# Altium footprint library icaplamp_evo.PcbLib: 13 footprints
Each footprint in its own frame and in the unit in brackets; x right, y up, seen from the top. Pads: shape width x height; smd on the part's side, far side on the other; paste and mask are expansions set on the pad; w line width, h text height; cw(c..) or ccw(c..) is an arc to the next point about the centre after c.
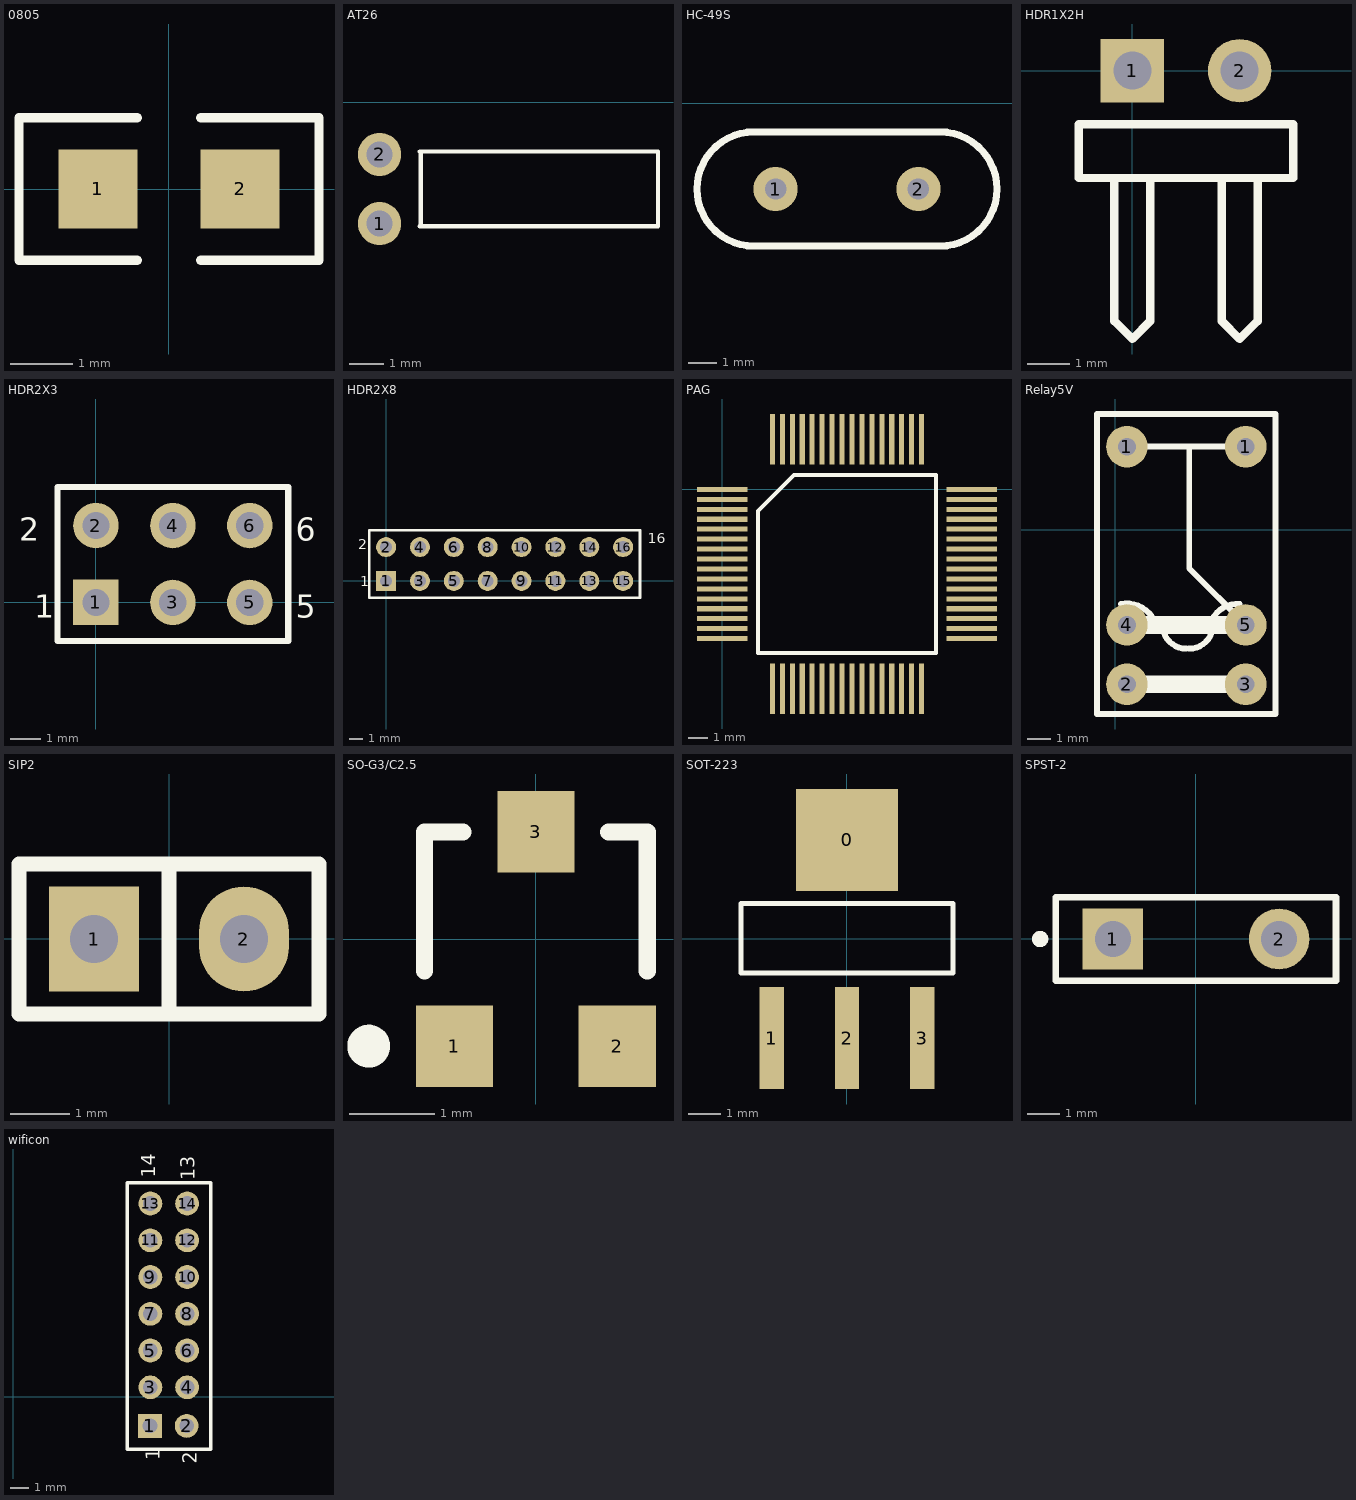
[diagram p0: the footprints below, top view; thin cyan lines are the x and y axes]

## 0805 [mil]
pads (2):
  rect 50x50 smd: 1(-45,0) 2(45,0)
Top Overlay:
  lines w6: -20,-45 -95,-45 -95,45 -20,45 ; 20,-45 95,-45 95,45 20,45

## AT26 [mil]
pads (2):
  round 50 hole 30: 1(60,-140.35) 2(60,-60.35)
Top Overlay:
  rectangle: 104.72,-143.61 110,-57
  lines w5: 106.49,-143.61 382.08,-143.61 382.08,-57 106.49,-57

## HC-49S [mil]
pads (2):
  round 62 hole 30: 1(160,-120) 2(360,-120)
Top Overlay:
  lines w10: 130,-200 cw(c130,-120) 130,-40 390,-40 cw(c390,-120) 390,-200 130,-200

## HDR1X2H [mm]
pads (2):
  rect 1.5x1.5 hole 0.9: 1(0,0)
  round 1.5 hole 0.9: 2(2.54,0)
Top Overlay:
  lines w0.2: -0.423,-2.54 -0.423,-5.927 0,-6.35 0.423,-5.927 0.423,-2.54 ; 2.117,-2.54 2.117,-5.927 2.54,-6.35 2.963,-5.927 2.963,-2.54 ; -1.27,-2.54 -1.27,-1.27 3.81,-1.27 3.81,-2.54 -1.27,-2.54

## HDR2X3 [mm]
pads (6):
  rect 1.5x1.5 hole 0.9: 1(0,0)
  round 1.5 hole 0.9: 2(0,2.54) 3(2.54,0) 4(2.54,2.54) 5(5.08,0) 6(5.08,2.54)
Top Overlay:
  lines w0.2: 1.482,-1.27 6.35,-1.27 ; 6.35,-1.27 -1.27,-1.27 -1.27,3.81 6.35,3.81 6.35,-1.27
  text "1" at -2.032,-0.508 h0.76
  text "2" at -2.54,2.032 h0.76
  text "5" at 6.604,-0.508 h0.76
  text "6" at 6.604,2.032 h0.76

## HDR2X8 [mm]
pads (16):
  rect 1.5x1.5 hole 0.9: 1(0,0)
  round 1.5 hole 0.9: 2(0,2.54) 3(2.54,0) 4(2.54,2.54) 5(5.08,0) 6(5.08,2.54) 7(7.62,0) 8(7.62,2.54) 9(10.16,0) 10(10.16,2.54) 11(12.7,0) 12(12.7,2.54) 13(15.24,0) 14(15.24,2.54) 15(17.78,0) 16(17.78,2.54)
Top Overlay:
  lines w0.2: -1.27,-1.27 19.05,-1.27 19.05,3.81 -1.27,3.81 -1.27,-1.27
  text "16" at 19.634,2.845 h0.76
  text "1" at -1.93,-0.381 h0.76
  text "2" at -2.108,2.362 h0.76

## PAG [mil]
pads (64):
  rect 100x10 smd: 1(0,0) 2(0,-19.68) 3(0,-39.37) 4(0,-59.05) 5(0,-78.74) 6(0,-98.42) 7(0,-118.11) 8(0,-137.79) 9(0,-157.48) 10(0,-177.16) 11(0,-196.85) 12(0,-216.53) 13(0,-236.22) 14(0,-255.91) 15(0,-275.59) 16(0,-295.27) 33(493.7,-295.27) 34(493.7,-275.59) 35(493.7,-255.91) 36(493.7,-236.22) 37(493.7,-216.53) 38(493.7,-196.85) 39(493.7,-177.16) 40(493.7,-157.48) 41(493.7,-137.79) 42(493.7,-118.11) 43(493.7,-98.42) 44(493.7,-78.74) 45(493.7,-59.05) 46(493.7,-39.37) 47(493.7,-19.68) 48(493.7,0)
  rect 10x100 smd: 17(99.21,-394.49) 18(118.9,-394.49) 19(138.58,-394.49) 20(158.27,-394.49) 21(177.95,-394.49) 22(197.64,-394.49) 23(217.32,-394.49) 24(237.01,-394.49) 25(256.69,-394.49) 26(276.38,-394.49) 27(296.06,-394.49) 28(315.75,-394.49) 29(335.43,-394.49) 30(355.12,-394.49) 31(374.8,-394.49) 32(394.49,-394.49) 49(394.49,99.21) 50(374.8,99.21) 51(355.12,99.21) 52(335.43,99.21) 53(315.75,99.21) 54(296.06,99.21) 55(276.38,99.21) 56(256.69,99.21) 57(237.01,99.21) 58(217.32,99.21) 59(197.64,99.21) 60(177.95,99.21) 61(158.27,99.21) 62(138.58,99.21) 63(118.9,99.21) 64(99.21,99.21)
Top Overlay:
  lines w7.87: 71.06,-323.43 422.64,-323.43 422.64,28.15 142.13,28.15 71.06,-42.91 71.06,-323.43

## Relay5V [mil]
pads (6):
  round 70 hole 30: 1(20,140) 1(220,140) 2(20,-260) 3(220,-260) 4(20,-160) 5(220,-160)
Top Layer:
  lines w10: -30,-310 265,-310
Top Overlay:
  lines w10: 10,-125 cw(c20,-175) 70,-165 ; 20,140 220,140 ; 80,-160 ccw(c120,-160) 120,-200 ; 125,-200 ccw(c125,-160) 165,-160 ; 125,140 125,-65 220,-160 ; 160,-165 cw(c205,-170) 210,-125 ; -30,-310 -30,195 270,195 270,-310 -30,-310
  lines w30: 20,-260 220,-260 ; 20,-160 220,-160

## SIP2 [mil]
pads (2):
  rect 60x70 hole 32: 1(-50,0)
  oval 60x70 hole 32: 2(50,0)
Top Overlay:
  lines w10: 0,-50 0,50 ; -100,-50 100,-50 100,50 -100,50 -100,-50

## SO-G3/C2.5 [mm]
pads (3):
  rect 0.9x0.95 smd: 1(-0.95,-1.25) 2(0.95,-1.25) 3(0,1.25)
Top Overlay:
  circle w0.25: c-1.95,-1.25 r0.125
  lines w0.2: -1.3,-0.375 -1.3,1.25 -0.85,1.25 ; 0.85,1.25 1.3,1.25 1.3,-0.375

## SOT-223 [mm]
pads (4):
  rect 3.1x3.1 smd: 0(0,3.01)
  rect 0.74x3.1 smd: 1(-2.29,-3.01) 2(0,-3.01) 3(2.29,-3.01)
Top Overlay:
  lines w0.152: -3.226,0.419 -3.226,-1.029 ; -0.406,1.079 3.226,1.079 3.226,-1.029 -0.203,-1.029 ; -0.025,-1.029 -3.226,-1.029 ; 0.102,1.079 -3.226,1.079 -3.226,0.165 ; -3.226,-1.029 -3.226,-1.029 ; -3.226,0.165 -3.226,0.165

## SPST-2 [mm]
pads (2):
  rect 1.85x1.85 hole 1.1: 1(-2.54,0)
  round 1.85 hole 1.1: 2(2.54,0)
Top Overlay:
  circle w0.25: c-4.761,-0.001 r0.125
  lines w0.2: -4.28,-1.27 -4.28,1.27 4.28,1.27 4.28,-1.27 -4.28,-1.27

## wificon [mm]
pads (14):
  rect 1.3x1.3 hole 0.8: 1(7.468,-1.6)
  round 1.3 hole 0.8: 2(9.474,-1.6) 3(7.493,0.508) 4(9.5,0.508) 5(7.493,2.515) 6(9.5,2.515) 7(7.493,4.521) 8(9.5,4.521) 9(7.493,6.528) 10(9.5,6.528) 11(7.493,8.534) 12(9.5,8.534) 13(7.493,10.541) 14(9.5,10.541)
Top Overlay:
  lines w0.2: 6.223,-2.87 6.223,11.684 10.795,11.684 10.795,-2.87 6.223,-2.87
  text "2" at 10.033,-3.683 h0.76
  text "13" at 9.906,11.811 h0.76
  text "14" at 7.747,11.938 h0.76
  text "1" at 8,-3.484 h0.76